# Altium schematic symbol library Connector.SchLib: 2 symbols
Pins are listed as number, name and electrical type; pins without a type are passive.

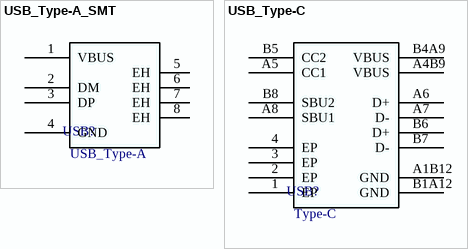
[diagram p0: symbols USB_Type-A_SMT to USB_Type-C]

## USB_Type-A_SMT
designator USB?  value USB_Type-A  (hidden comment: USB_Type-A_SMT)
footprint USB TYPE-A
pins: 1 VBUS, 2 DM, 3 DP, 4 GND, 5 EH, 6 EH, 7 EH, 8 EH

## USB_Type-C
designator USB?  value Type-C  (hidden comment: USB_Type-C)
footprint USB Type C Port (SMD)_16Pin
pins: 1 EP, 2 EP, 3 EP, 4 EP, A1B12 GND, A4B9 VBUS, A5 CC1, A6 D+, A7 D-, A8 SBU1, B1A12 GND, B4A9 VBUS, B5 CC2, B6 D+, B7 D-, B8 SBU2